# Altium schematic symbol library ZMBo Schematic Library.SchLib: 54 symbols
Pins are listed as number, name and electrical type; pins without a type are passive.

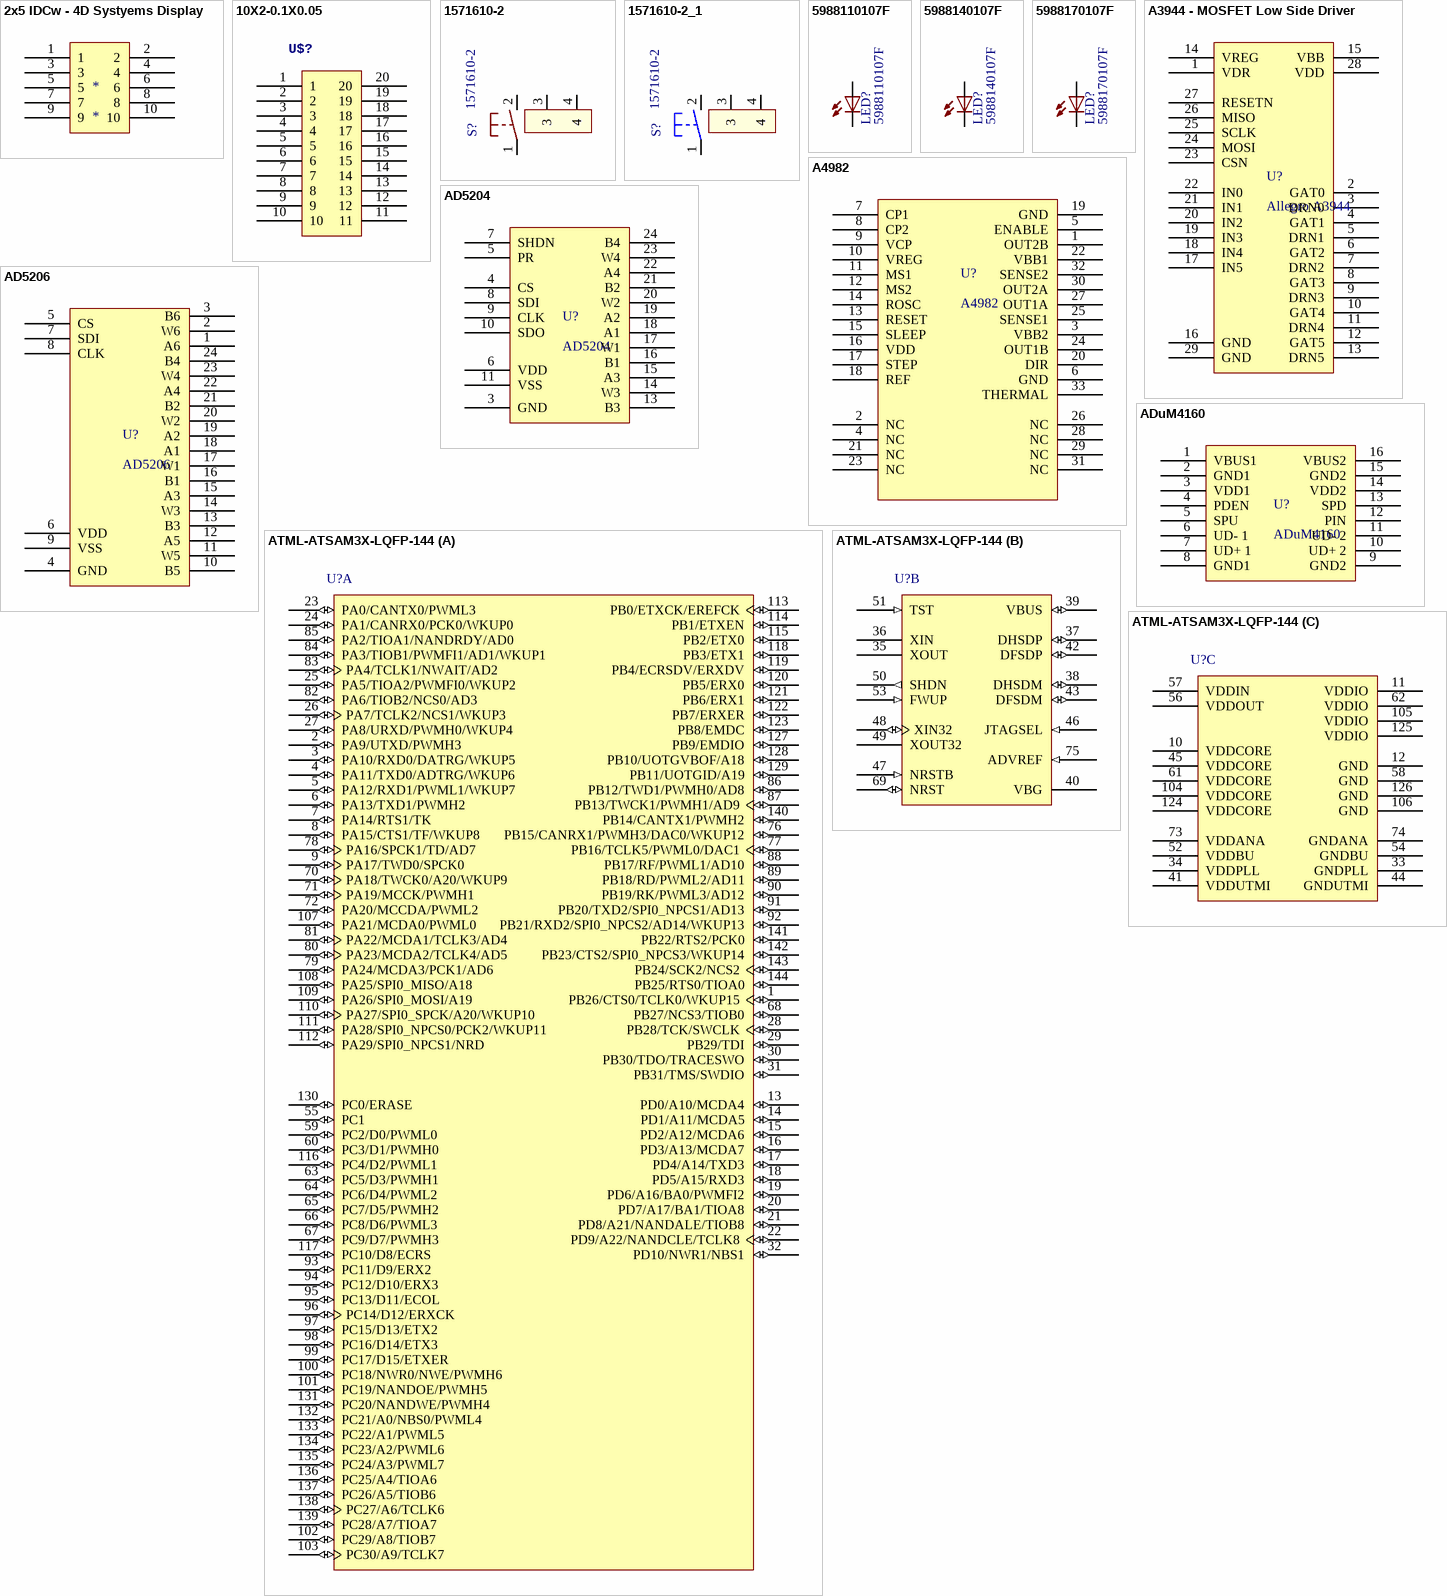
[diagram p0: symbols 2x5 IDCw - 4D Systyems Display to ATML-ATSAM3X-LQFP-144]

## 2x5 IDCw - 4D Systyems Display
designator *
footprint 2x5 IDCw
pins: 1, 2, 3, 4, 5, 6, 7, 8, 9, 10

## 10X2-0.1X0.05
designator U$?
LastRevisionNote: ImportComponents; Published: 23-Apr-2014; Publisher: UltiMachine; LastRevisionDate: 23-Apr-2014
footprint 10X2-0.05X0.1 EXP
pins: 1, 2, 3, 4, 5, 6, 7, 8, 9, 10, 11, 12, 13, 14, 15, 16, 17, 18, 19, 20

## 1571610-2
designator S?
SWTCH Momentary Washable; Manufacturer: Omron; Manufacturer: TE; LastRevisionNote: Import; ComponentLink1URL: http://www.te.com/commerce/DocumentDelivery/DDEController?Action=srchrtrv&DocNm=1571610&DocType=Customer+Drawing&DocLang=English; ComponentLink1Description: Datasheet for B3F-31XX; Published: 23-Apr-2014; Publisher: UltiMachine; LastRevisionDate: 23-Apr-2014; ManufacturerPartNumber: 1571610-2; Supplier 1: Mouser; Supplier Part Number 1: 506-1571610-2
footprint B3F-31XX
pins: 1 P, 2 S, 3 (power), 4 (power)

## 1571610-2_1
designator S?, comment 1571610-2
SWTCH Momentary Washable; Manufacturer: Omron; Manufacturer: TE; LastRevisionNote: Import; ComponentLink1URL: http://www.te.com/commerce/DocumentDelivery/DDEController?Action=srchrtrv&DocNm=1571610&DocType=Customer+Drawing&DocLang=English; ComponentLink1Description: Datasheet for B3F-31XX; Published: 23-Apr-2014; Publisher: UltiMachine; LastRevisionDate: 23-Apr-2014; ManufacturerPartNumber: 1571610-2; Supplier 1: Mouser; Supplier Part Number 1: 506-1571610-2
footprint B3F-31XX
pins: 1 P, 2 S, 3 (power), 4 (power)

## 5988110107F
designator LED?
LED 0805 Red; LastRevisionNote: ImportComponents; Published: 23-Apr-2014; Publisher: UltiMachine; LastRevisionDate: 23-Apr-2014; VALUE: 5988110107F
footprint LED2012120
pins: A, C

## 5988140107F
designator LED?
LED 0805 Yellow; LastRevisionNote: ImportComponents; Published: 23-Apr-2014; Publisher: UltiMachine; LastRevisionDate: 23-Apr-2014; VALUE: 5988140107F
footprint LED2012120
pins: A, C

## 5988170107F
designator LED?
LED 0805 Green; LastRevisionNote: ImportComponents; Published: 23-Apr-2014; Publisher: UltiMachine; LastRevisionDate: 23-Apr-2014; VALUE: 5988170107F
footprint LED2012120
pins: A, C

## A3944 - MOSFET Low Side Driver
designator U?, comment Allegro A3944
Allegro Micro A3944 MOST Driver (low side)
footprint A3944 28 Pin TSSOP (TSOP, 28-Leads, Body 9.70x4.40mm, Pitch 0.65mm, Thermal Pad 5.08.2x3.00.2mm, IPC Medium Density)
pins: 1 VDR, 2 GAT0, 3 DRN0, 4 GAT1, 5 DRN1, 6 GAT2, 7 DRN2, 8 GAT3, 9 DRN3, 10 GAT4, 11 DRN4, 12 GAT5, 13 DRN5, 14 VREG, 15 VBB, 16 GND, 17 IN5, 18 IN4, 19 IN3, 20 IN2, 21 IN1, 22 IN0, 23 CSN, 24 MOSI, 25 SCLK, 26 MISO, 27 RESETN, 28 VDD, 29 GND

## A4982
designator U?
Alllegor A4982 Stepper Driver
footprint QFN50P508X508X100_HS-33N (QFN, 32-Leads, Body 5.08x5.08mm, Pitch 0.50mm, Thermal Pad 3.40x3.40mm, IPC Medium Density)
pins: 1 OUT2B, 2 NC, 3 VBB2, 4 NC, 5 ENABLE, 6 GND, 7 CP1, 8 CP2, 9 VCP, 10 VREG, 11 MS1, 12 MS2, 13 RESET, 14 ROSC, 15 SLEEP, 16 VDD, 17 STEP, 18 REF, 19 GND, 20 DIR, 21 NC, 22 VBB1, 23 NC, 24 OUT1B, 25 SENSE1, 26 NC, 27 OUT1A, 28 NC, 29 NC, 30 OUT2A, 31 NC, 32 SENSE2, 33 THERMAL

## AD5204
designator U?
footprint AD5206 & AD5204 (SOP, 24-Leads, Body 7.80x4.40mm, Pitch 0.65mm, IPC Medium Density)
pins: 1 NC hidden, 2 NC hidden, 3 GND, 4 CS, 5 PR, 6 VDD, 7 SHDN, 8 SDI, 9 CLK, 10 SDO, 11 VSS, 12 NC hidden, 13 B3, 14 W3, 15 A3, 16 B1, 17 W1, 18 A1, 19 A2, 20 W2, 21 B2, 22 A4, 23 W4, 24 B4

## AD5206
designator U?
footprint AD5206 & AD5204 (SOP, 24-Leads, Body 7.80x4.40mm, Pitch 0.65mm, IPC Medium Density)
pins: 1 A6, 2 W6, 3 B6, 4 GND, 5 CS, 6 VDD, 7 SDI, 8 CLK, 9 VSS, 10 B5, 11 W5, 12 A5, 13 B3, 14 W3, 15 A3, 16 B1, 17 W1, 18 A1, 19 A2, 20 W2, 21 B2, 22 A4, 23 W4, 24 B4

## ADuM4160
designator U?
USB Opto Isolator
footprint ADuM4160 (SOIC, 16-Leads, Body 10.30x7.50mm, Pitch 1.27mm, IPC Medium Density)
pins: 1 VBUS1, 2 GND1, 3 VDD1, 4 PDEN, 5 SPU, 6 UD- 1, 7 UD+ 1, 8 GND1, 9 GND2, 10 UD+ 2, 11 UD- 2, 12 PIN, 13 SPD, 14 VDD2, 15 GND2, 16 VBUS2

## ATML-ATSAM3X-LQFP-144
designator U?
footprint LQFP144_N (Thin QFP, 144-Leads, Body 20x20mm, Pitch 0.5mm, IPC Medium Density)
part A pins: 1 PB26/CTS0/TCLK0/WKUP15 (io), 2 PA9/UTXD/PWMH3 (io), 3 PA10/RXD0/DATRG/WKUP5 (io), 4 PA11/TXD0/ADTRG/WKUP6 (io), 5 PA12/RXD1/PWML1/WKUP7 (io), 6 PA13/TXD1/PWMH2 (io), 7 PA14/RTS1/TK (io), 8 PA15/CTS1/TF/WKUP8 (io), 9 PA17/TWD0/SPCK0 (io), 13 PD0/A10/MCDA4 (io), 14 PD1/A11/MCDA5 (io), 15 PD2/A12/MCDA6 (io), 16 PD3/A13/MCDA7 (io), 17 PD4/A14/TXD3 (io), 18 PD5/A15/RXD3 (io), 19 PD6/A16/BA0/PWMFI2 (io), 20 PD7/A17/BA1/TIOA8 (io), 21 PD8/A21/NANDALE/TIOB8 (io), 22 PD9/A22/NANDCLE/TCLK8 (io), 23 PA0/CANTX0/PWML3 (io), 24 PA1/CANRX0/PCK0/WKUP0 (io), 25 PA5/TIOA2/PWMFI0/WKUP2 (io), 26 PA7/TCLK2/NCS1/WKUP3 (io), 27 PA8/URXD/PWMH0/WKUP4 (io), 28 PB28/TCK/SWCLK (io), 29 PB29/TDI (io), 30 PB30/TDO/TRACESWO (io), 31 PB31/TMS/SWDIO (io), 32 PD10/NWR1/NBS1 (io), 55 PC1 (io), 59 PC2/D0/PWML0 (io), 60 PC3/D1/PWMH0 (io), 63 PC5/D3/PWMH1 (io), 64 PC6/D4/PWML2 (io), 65 PC7/D5/PWMH2 (io), 66 PC8/D6/PWML3 (io), 67 PC9/D7/PWMH3 (io), 68 PB27/NCS3/TIOB0 (io), 70 PA18/TWCK0/A20/WKUP9 (io), 71 PA19/MCCK/PWMH1 (io), 72 PA20/MCCDA/PWML2 (io), 76 PB15/CANRX1/PWMH3/DAC0/WKUP12 (io), 77 PB16/TCLK5/PWML0/DAC1 (io), 78 PA16/SPCK1/TD/AD7 (io), 79 PA24/MCDA3/PCK1/AD6 (io), 80 PA23/MCDA2/TCLK4/AD5 (io), 81 PA22/MCDA1/TCLK3/AD4 (io), 82 PA6/TIOB2/NCS0/AD3 (io), 83 PA4/TCLK1/NWAIT/AD2 (io), 84 PA3/TIOB1/PWMFI1/AD1/WKUP1 (io), 85 PA2/TIOA1/NANDRDY/AD0 (io), 86 PB12/TWD1/PWMH0/AD8 (io), 87 PB13/TWCK1/PWMH1/AD9 (io), 88 PB17/RF/PWML1/AD10 (io), 89 PB18/RD/PWML2/AD11 (io), 90 PB19/RK/PWML3/AD12 (io), 91 PB20/TXD2/SPI0_NPCS1/AD13 (io), 92 PB21/RXD2/SPI0_NPCS2/AD14/WKUP13 (io), 93 PC11/D9/ERX2 (io), 94 PC12/D10/ERX3 (io), 95 PC13/D11/ECOL (io), 96 PC14/D12/ERXCK (io), 97 PC15/D13/ETX2 (io), 98 PC16/D14/ETX3 (io), 99 PC17/D15/ETXER (io), 100 PC18/NWR0/NWE/PWMH6 (io), 101 PC19/NANDOE/PWMH5 (io), 102 PC29/A8/TIOB7 (io), 103 PC30/A9/TCLK7 (io), 107 PA21/MCDA0/PWML0 (io), 108 PA25/SPI0_MISO/A18 (io), 109 PA26/SPI0_MOSI/A19 (io), 110 PA27/SPI0_SPCK/A20/WKUP10 (io), 111 PA28/SPI0_NPCS0/PCK2/WKUP11 (io), 112 PA29/SPI0_NPCS1/NRD (io), 113 PB0/ETXCK/EREFCK (io), 114 PB1/ETXEN (io), 115 PB2/ETX0 (io), 116 PC4/D2/PWML1 (io), 117 PC10/D8/ECRS (io), 118 PB3/ETX1 (io), 119 PB4/ECRSDV/ERXDV (io), 120 PB5/ERX0 (io), 121 PB6/ERX1 (io), 122 PB7/ERXER (io), 123 PB8/EMDC (io), 127 PB9/EMDIO (io), 128 PB10/UOTGVBOF/A18 (io), 129 PB11/UOTGID/A19 (io), 130 PC0/ERASE (io), 131 PC20/NANDWE/PWMH4 (io), 132 PC21/A0/NBS0/PWML4 (io), 133 PC22/A1/PWML5 (io), 134 PC23/A2/PWML6 (io), 135 PC24/A3/PWML7 (io), 136 PC25/A4/TIOA6 (io), 137 PC26/A5/TIOB6 (io), 138 PC27/A6/TCLK6 (io), 139 PC28/A7/TIOA7 (io), 140 PB14/CANTX1/PWMH2 (io), 141 PB22/RTS2/PCK0 (io), 142 PB23/CTS2/SPI0_NPCS3/WKUP14 (io), 143 PB24/SCK2/NCS2 (io), 144 PB25/RTS0/TIOA0 (io)
part B pins: 35 XOUT "Main Oscillator Output", 36 XIN "Main Oscillator Input", 37 DHSDP (io) "USB High Speed Data +", 38 DHSDM (io) "USB High Speed Data -", 39 VBUS (io) "USB Bus Power Measurement Mini Host/Device", 40 VBG "Bias Voltage Reference", 42 DFSDP (io) "USB Full Speed Data +", 43 DFSDM (io) "USB Full Speed Data -", 46 JTAGSEL (in) "JTAG Selection", 47 NRSTB (in) "Asynchronous Microcontroller Reset", 48 XIN32 (io) "Slow Clock Oscillator Input", 49 XOUT32 "Slow Clock Oscillator Output", 50 SHDN (out) "Shut-Down Control", 51 TST (in) "Test Mode Select", 53 FWUP (in) "Force Wake-up Input", 69 NRST (io) "Microcontroller Reset", 75 ADVREF (in) "ADC and DAC Reference"
part C pins: 10 VDDCORE (power) "Core Chip Power Supply", 11 VDDIO (power) "Peripherals I/O Lines Power Supply", 12 GND (power) "Ground", 33 GNDPLL (power) "PLL A, UPLL and Oscillator Ground", 34 VDDPLL (power) "PLL A, UPLL and Oscillator Power Supply", 41 VDDUTMI (power) "USB UTMI+ Interface Power Supply", 44 GNDUTMI (power) "USB UTMI+ Interface Ground", 45 VDDCORE (power) "Core Chip Power Supply", 52 VDDBU (power) "Backup I/O Lines Power Supply", 54 GNDBU (power) "Backup Ground", 56 VDDOUT (power) "Voltage Regulator Output", 57 VDDIN (power) "Voltage Regulator, ADC and DAC Power", 58 GND (power) "Ground", 61 VDDCORE (power) "Core Chip Power Supply", 62 VDDIO (power) "Peripherals I/O Lines Power Supply", 73 VDDANA (power) "ADC and DAC Analog Power Supply", 74 GNDANA (power) "ADC and DAC Analog Ground", 104 VDDCORE (power) "Core Chip Power Supply", 105 VDDIO (power) "Peripherals I/O Lines Power Supply", 106 GND (power) "Ground", 124 VDDCORE (power) "Core Chip Power Supply", 125 VDDIO (power) "Peripherals I/O Lines Power Supply", 126 GND (power) "Ground"

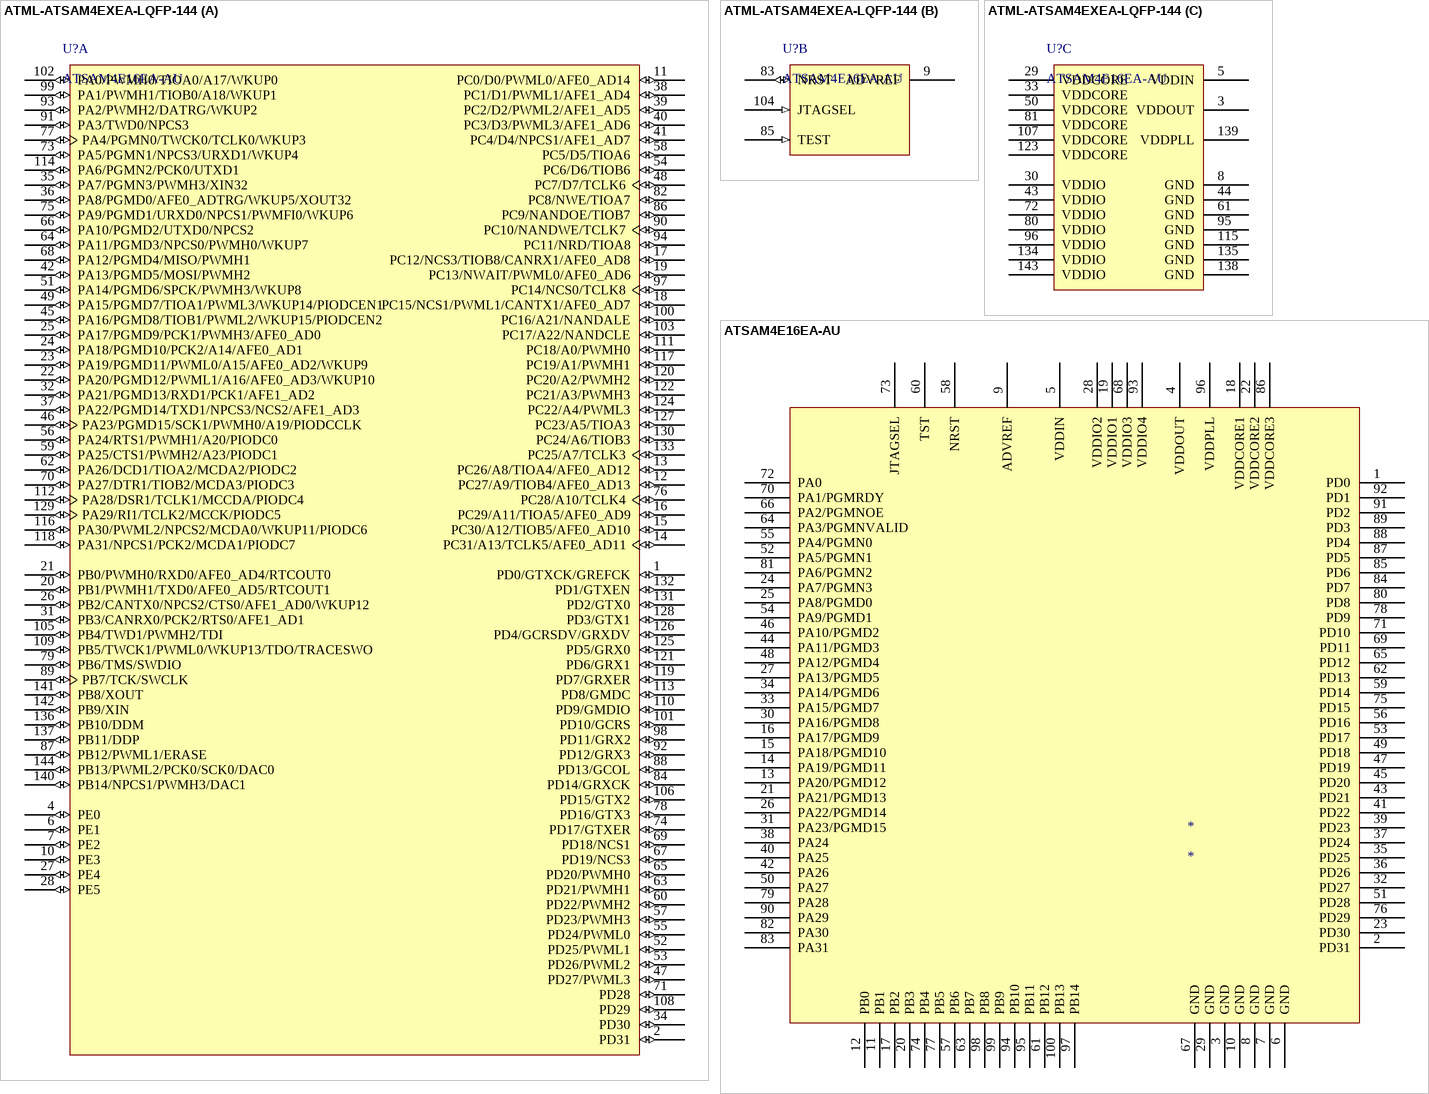
[diagram p1: symbols ATML-ATSAM4EXEA-LQFP-144 to ATSAM4E16EA-AU]

## ATML-ATSAM4EXEA-LQFP-144
designator U?, comment ATSAM4E16EA-AU
footprint LQFP144_N (Thin QFP, 144-Leads, Body 20x20mm, Pitch 0.5mm, IPC Medium Density)
part A pins: 1 PD0/GTXCK/GREFCK (io) "Parallel IO Controller D", 2 PD31 (io) "Parallel IO Controller D", 4 PE0 (io) "Parallel IO Controller E", 6 PE1 (io) "Parallel IO Controller E", 7 PE2 (io) "Parallel IO Controller E", 10 PE3 (io) "Parallel IO Controller E", 11 PC0/D0/PWML0/AFE0_AD14 (io) "Parallel IO Controller C", 12 PC27/A9/TIOB4/AFE0_AD13 (io) "Parallel IO Controller C", 13 PC26/A8/TIOA4/AFE0_AD12 (io) "Parallel IO Controller C", 14 PC31/A13/TCLK5/AFE0_AD11 (io) "Parallel IO Controller C", 15 PC30/A12/TIOB5/AFE0_AD10 (io) "Parallel IO Controller C", 16 PC29/A11/TIOA5/AFE0_AD9 (io) "Parallel IO Controller C", 17 PC12/NCS3/TIOB8/CANRX1/AFE0_AD8 (io) "Parallel IO Controller C", 18 PC15/NCS1/PWML1/CANTX1/AFE0_AD7 (io) "Parallel IO Controller C", 19 PC13/NWAIT/PWML0/AFE0_AD6 (io) "Parallel IO Controller C", 20 PB1/PWMH1/TXD0/AFE0_AD5/RTCOUT1 (io) "Parallel IO Controller B", 21 PB0/PWMH0/RXD0/AFE0_AD4/RTCOUT0 (io) "Parallel IO Controller B", 22 PA20/PGMD12/PWML1/A16/AFE0_AD3/WKUP10 (io) "Parallel IO Controller A", 23 PA19/PGMD11/PWML0/A15/AFE0_AD2/WKUP9 (io) "Parallel IO Controller A", 24 PA18/PGMD10/PCK2/A14/AFE0_AD1 (io) "Parallel IO Controller A", 25 PA17/PGMD9/PCK1/PWMH3/AFE0_AD0 (io) "Parallel IO Controller A", 26 PB2/CANTX0/NPCS2/CTS0/AFE1_AD0/WKUP12 (io) "Parallel IO Controller B", 27 PE4 (io) "Parallel IO Controller E", 28 PE5 (io) "Parallel IO Controller E", 31 PB3/CANRX0/PCK2/RTS0/AFE1_AD1 (io) "Parallel IO Controller B", 32 PA21/PGMD13/RXD1/PCK1/AFE1_AD2 (io) "Parallel IO Controller A", 34 PD30 (io) "Parallel IO Controller D", 35 PA7/PGMN3/PWMH3/XIN32 (io) "Parallel IO Controller A", 36 PA8/PGMD0/AFE0_ADTRG/WKUP5/XOUT32 (io) "Parallel IO Controller A", 37 PA22/PGMD14/TXD1/NPCS3/NCS2/AFE1_AD3 (io) "Parallel IO Controller A", 38 PC1/D1/PWML1/AFE1_AD4 (io) "Parallel IO Controller C", 39 PC2/D2/PWML2/AFE1_AD5 (io) "Parallel IO Controller C", 40 PC3/D3/PWML3/AFE1_AD6 (io) "Parallel IO Controller C", 41 PC4/D4/NPCS1/AFE1_AD7 (io) "Parallel IO Controller C", 42 PA13/PGMD5/MOSI/PWMH2 (io) "Parallel IO Controller A", 45 PA16/PGMD8/TIOB1/PWML2/WKUP15/PIODCEN2 (io) "Parallel IO Controller A", 46 PA23/PGMD15/SCK1/PWMH0/A19/PIODCCLK (io) "Parallel IO Controller A", 47 PD27/PWML3 (io) "Parallel IO Controller D", 48 PC7/D7/TCLK6 (io) "Parallel IO Controller C", 49 PA15/PGMD7/TIOA1/PWML3/WKUP14/PIODCEN1 (io) "Parallel IO Controller A", 51 PA14/PGMD6/SPCK/PWMH3/WKUP8 (io) "Parallel IO Controller A", 52 PD25/PWML1 (io) "Parallel IO Controller D", 53 PD26/PWML2 (io) "Parallel IO Controller D", 54 PC6/D6/TIOB6 (io) "Parallel IO Controller C", 55 PD24/PWML0 (io) "Parallel IO Controller D", 56 PA24/RTS1/PWMH1/A20/PIODC0 (io) "Parallel IO Controller A", 57 PD23/PWMH3 (io) "Parallel IO Controller D", 58 PC5/D5/TIOA6 (io) "Parallel IO Controller C", 59 PA25/CTS1/PWMH2/A23/PIODC1 (io) "Parallel IO Controller A", 60 PD22/PWMH2 (io) "Parallel IO Controller D", 62 PA26/DCD1/TIOA2/MCDA2/PIODC2 (io) "Parallel IO Controller A", 63 PD21/PWMH1 (io) "Parallel IO Controller D", 64 PA11/PGMD3/NPCS0/PWMH0/WKUP7 (io) "Parallel IO Controller A", 65 PD20/PWMH0 (io) "Parallel IO Controller D", 66 PA10/PGMD2/UTXD0/NPCS2 (io) "Parallel IO Controller A", 67 PD19/NCS3 (io) "Parallel IO Controller D", 68 PA12/PGMD4/MISO/PWMH1 (io) "Parallel IO Controller A", 69 PD18/NCS1 (io) "Parallel IO Controller D", 70 PA27/DTR1/TIOB2/MCDA3/PIODC3 (io) "Parallel IO Controller A", 71 PD28 (io) "Parallel IO Controller D", 73 PA5/PGMN1/NPCS3/URXD1/WKUP4 (io) "Parallel IO Controller A", 74 PD17/GTXER (io) "Parallel IO Controller D", 75 PA9/PGMD1/URXD0/NPCS1/PWMFI0/WKUP6 (io) "Parallel IO Controller A", 76 PC28/A10/TCLK4 (io) "Parallel IO Controller C", 77 PA4/PGMN0/TWCK0/TCLK0/WKUP3 (io) "Parallel IO Controller A", 78 PD16/GTX3 (io) "Parallel IO Controller D", 79 PB6/TMS/SWDIO (io) "Parallel IO Controller B", 82 PC8/NWE/TIOA7 (io) "Parallel IO Controller C", 84 PD14/GRXCK (io) "Parallel IO Controller D", 86 PC9/NANDOE/TIOB7 (io) "Parallel IO Controller C", 87 PB12/PWML1/ERASE (io) "Parallel IO Controller B", 88 PD13/GCOL (io) "Parallel IO Controller D", 89 PB7/TCK/SWCLK (io) "Parallel IO Controller B", 90 PC10/NANDWE/TCLK7 (io) "Parallel IO Controller C", 91 PA3/TWD0/NPCS3 (io) "Parallel IO Controller A", 92 PD12/GRX3 (io) "Parallel IO Controller D", 93 PA2/PWMH2/DATRG/WKUP2 (io) "Parallel IO Controller A", 94 PC11/NRD/TIOA8 (io) "Parallel IO Controller C", 97 PC14/NCS0/TCLK8 (io) "Parallel IO Controller C", 98 PD11/GRX2 (io) "Parallel IO Controller D", 99 PA1/PWMH1/TIOB0/A18/WKUP1 (io) "Parallel IO Controller A", 100 PC16/A21/NANDALE (io) "Parallel IO Controller C", 101 PD10/GCRS (io) "Parallel IO Controller D", 102 PA0/PWMH0/TIOA0/A17/WKUP0 (io) "Parallel IO Controller A", 103 PC17/A22/NANDCLE (io) "Parallel IO Controller C", 105 PB4/TWD1/PWMH2/TDI (io) "Parallel IO Controller B", 106 PD15/GTX2 (io) "Parallel IO Controller D", 108 PD29 (io) "Parallel IO Controller D", 109 PB5/TWCK1/PWML0/WKUP13/TDO/TRACESWO (io) "Parallel IO Controller B", 110 PD9/GMDIO (io) "Parallel IO Controller D", 111 PC18/A0/PWMH0 (io) "Parallel IO Controller C", 112 PA28/DSR1/TCLK1/MCCDA/PIODC4 (io) "Parallel IO Controller A", 113 PD8/GMDC (io) "Parallel IO Controller D", 114 PA6/PGMN2/PCK0/UTXD1 (io) "Parallel IO Controller A", 116 PA30/PWML2/NPCS2/MCDA0/WKUP11/PIODC6 (io) "Parallel IO Controller A", 117 PC19/A1/PWMH1 (io) "Parallel IO Controller C", 118 PA31/NPCS1/PCK2/MCDA1/PIODC7 (io) "Parallel IO Controller A", 119 PD7/GRXER (io) "Parallel IO Controller D", 120 PC20/A2/PWMH2 (io) "Parallel IO Controller C", 121 PD6/GRX1 (io) "Parallel IO Controller D", 122 PC21/A3/PWMH3 (io) "Parallel IO Controller C", 124 PC22/A4/PWML3 (io) "Parallel IO Controller C", 125 PD5/GRX0 (io) "Parallel IO Controller D", 126 PD4/GCRSDV/GRXDV (io) "Parallel IO Controller D", 127 PC23/A5/TIOA3 (io) "Parallel IO Controller C", 128 PD3/GTX1 (io) "Parallel IO Controller D", 129 PA29/RI1/TCLK2/MCCK/PIODC5 (io) "Parallel IO Controller A", 130 PC24/A6/TIOB3 (io) "Parallel IO Controller C", 131 PD2/GTX0 (io) "Parallel IO Controller D", 132 PD1/GTXEN (io) "Parallel IO Controller D", 133 PC25/A7/TCLK3 (io) "Parallel IO Controller C", 136 PB10/DDM (io) "Parallel IO Controller B", 137 PB11/DDP (io) "Parallel IO Controller B", 140 PB14/NPCS1/PWMH3/DAC1 (io) "Parallel IO Controller B", 141 PB8/XOUT (io) "Parallel IO Controller B", 142 PB9/XIN (io) "Parallel IO Controller B", 144 PB13/PWML2/PCK0/SCK0/DAC0 (io) "Parallel IO Controller B"
part B pins: 9 ADVREF "ADC, DAC and Analog Comparator  Reference", 83 NRST (io) "Synchronous Microcontroller Reset", 85 TEST (in) "Test Select", 104 JTAGSEL (in) "JTAG Selection"
part C pins: 3 VDDOUT (power) "Voltage Regulator Output", 5 VDDIN (power) "Voltage Regulator Input, DAC and Analog  Comparator Power Supply", 8 GND (power) "Ground", 29 VDDCORE (power) "Power the core, the embedded memories and the peripherals", 30 VDDIO (power) "Peripherals I/O Lines Power Supply", 33 VDDCORE (power) "Power the core, the embedded memories and the peripherals", 43 VDDIO (power) "Peripherals I/O Lines Power Supply", 44 GND (power) "Ground", 50 VDDCORE (power) "Power the core, the embedded memories and the peripherals", 61 GND (power) "Ground", 72 VDDIO (power) "Peripherals I/O Lines Power Supply", 80 VDDIO (power) "Peripherals I/O Lines Power Supply", 81 VDDCORE (power) "Power the core, the embedded memories and the peripherals", 95 GND (power) "Ground", 96 VDDIO (power) "Peripherals I/O Lines Power Supply", 107 VDDCORE (power) "Power the core, the embedded memories and the peripherals", 115 GND (power) "Ground", 123 VDDCORE (power) "Power the core, the embedded memories and the peripherals", 134 VDDIO (power) "Peripherals I/O Lines Power Supply", 135 GND (power) "Ground", 138 GND (power) "Ground", 139 VDDPLL (power) "Oscillator and PLL Power Supply", 143 VDDIO (power) "Peripherals I/O Lines Power Supply"

## ATSAM4E16EA-AU
designator *
pins: 1 PD0, 2 PD31, 3 GND, 4 VDDOUT, 5 VDDIN, 6 GND, 7 GND, 8 GND, 9 ADVREF, 10 GND, 11 PB1, 12 PB0, 13 PA20/PGMD12, 14 PA19/PGMD11, 15 PA18/PGMD10, 16 PA17/PGMD9, 17 PB2, 18 VDDCORE1, 19 VDDIO1, 20 PB3, 21 PA21/PGMD13, 22 VDDCORE2, 23 PD30, 24 PA7/PGMN3, 25 PA8/PGMD0, 26 PA22/PGMD14, 27 PA13/PGMD5, 28 VDDIO2, 29 GND, 30 PA16/PGMD8, 31 PA23/PGMD15, 32 PD27, 33 PA15/PGMD7, 34 PA14/PGMD6, 35 PD25, 36 PD26, 37 PD24, 38 PA24, 39 PD23, 40 PA25, 41 PD22, 42 PA26, 43 PD21, 44 PA11/PGMD3, 45 PD20, 46 PA10/PGMD2, 47 PD19, 48 PA12/PGMD4, 49 PD18, 50 PA27, 51 PD28, 52 PA5/PGMN1, 53 PD17, 54 PA9/PGMD1, 55 PA4/PGMN0, 56 PD16, 57 PB6, 58 NRST, 59 PD14, 60 TST, 61 PB12, 62 PD13, 63 PB7, 64 PA3/PGMNVALID, 65 PD12, 66 PA2/PGMNOE, 67 GND, 68 VDDIO3, 69 PD11, 70 PA1/PGMRDY, 71 PD10, 72 PA0, 73 JTAGSEL, 74 PB4, 75 PD15, 76 PD29, 77 PB5, 78 PD9, 79 PA28, 80 PD8, 81 PA6/PGMN2, 82 PA30, 83 PA31, 84 PD7, 85 PD6, 86 VDDCORE3, 87 PD5, 88 PD4, 89 PD3, 90 PA29, 91 PD2, 92 PD1, 93 VDDIO4, 94 PB10, 95 PB11, 96 VDDPLL, 97 PB14, 98 PB8, 99 PB9, 100 PB13

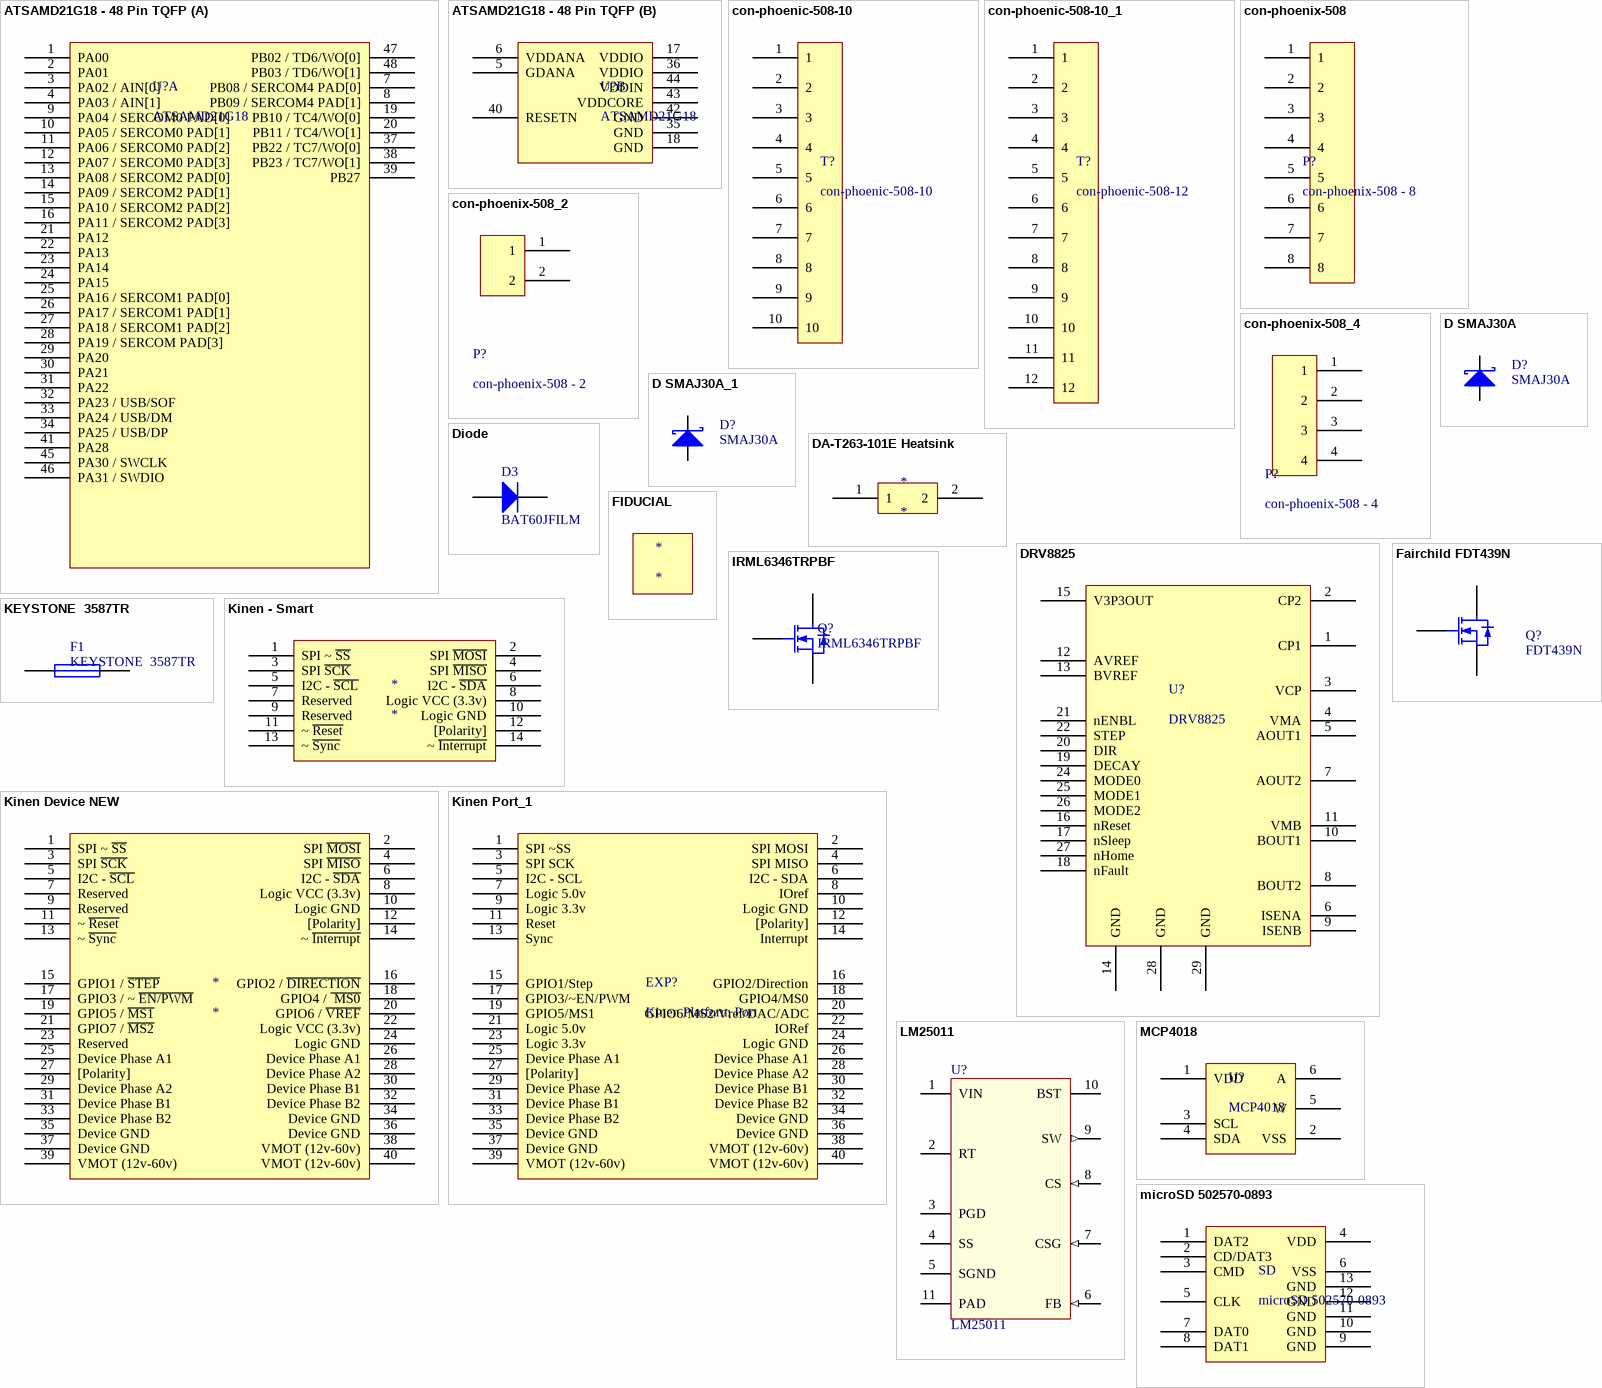
[diagram p2: symbols ATSAMD21G18 - 48 Pin TQFP to microSD 502570-0893]

## ATSAMD21G18 - 48 Pin TQFP
designator U?, comment ATSAMD21G18
ARM Cortex M0+
footprint TSQFP50P900X900X120-48N (TSQFP, 48-Leads, Body 7.00x7.00mm, Pitch 0.50mm, IPC Medium Density)
part A pins: 1 PA00, 2 PA01, 3 PA02 / AIN[0], 4 PA03 / AIN[1], 7 PB08 / SERCOM4 PAD[0], 8 PB09 / SERCOM4 PAD[1], 9 PA04 / SERCOM0 PAD[0], 10 PA05 / SERCOM0 PAD[1], 11 PA06 / SERCOM0 PAD[2], 12 PA07 / SERCOM0 PAD[3], 13 PA08 / SERCOM2 PAD[0], 14 PA09 / SERCOM2 PAD[1], 15 PA10 / SERCOM2 PAD[2], 16 PA11 / SERCOM2 PAD[3], 19 PB10 / TC4/WO[0], 20 PB11 / TC4/WO[1], 21 PA12, 22 PA13, 23 PA14, 24 PA15, 25 PA16 / SERCOM1 PAD[0], 26 PA17 / SERCOM1 PAD[1], 27 PA18 / SERCOM1 PAD[2], 28 PA19 / SERCOM PAD[3], 29 PA20, 30 PA21, 31 PA22, 32 PA23 / USB/SOF, 33 PA24 / USB/DM, 34 PA25 / USB/DP, 37 PB22 / TC7/WO[0], 38 PB23 / TC7/WO[1], 39 PB27, 41 PA28, 45 PA30 / SWCLK, 46 PA31 / SWDIO, 47 PB02 / TD6/WO[0], 48 PB03 / TD6/WO[1]
part B pins: 5 GDANA, 6 VDDANA, 17 VDDIO, 18 GND, 35 GND, 36 VDDIO, 40 RESETN, 42 GND, 43 VDDCORE, 44 VDDIN

## con-phoenic-508-10
designator T?
footprint con-phoenix-508 - 10 (con-phoenix-508)
pins: 1, 2, 3, 4, 5, 6, 7, 8, 9, 10

## con-phoenic-508-10_1
designator T?, comment con-phoenic-508-12
footprint con-phoenix-508 - 12 (con-phoenix-508)
pins: 1, 2, 3, 4, 5, 6, 7, 8, 9, 10, 11, 12

## con-phoenix-508
designator P?, comment con-phoenix-508 - 8
footprint con-phoenix-508 - 8 (con-phoenix-508)
pins: 1, 2, 3, 4, 5, 6, 7, 8

## con-phoenix-508_2
designator P?, comment con-phoenix-508 - 2
footprint MSTBV4
footprint MSTBV2 - duplicate
pins: 1, 2

## con-phoenix-508_4
designator P?, comment con-phoenix-508 - 4
footprint MSTBV4
pins: 1, 2, 3, 4

## D SMAJ30A
designator D?, comment SMAJ30A
Published: 8-Jun-2000; LatestRevisionDate: 17-Jul-2002; LatestRevisionNote: Re-released for DXP Platform.; PackageReference: SMB; Publisher: Altium Limited; PackageDescription: DO-214-AA/SMB; 2 C-Bend Leads; Body 5.3 x 3.6 mm, inc. leads (LxW); Code_JEDEC: DO-214-AA
footprint SMB (DO-214-AA/SMB; 2 C-Bend Leads; Body 5.3 x 3.6 mm, inc. leads (LxW))
simulation model SKYDIODE (Diode)
signal-integrity model D Schottky
footprint SMAJ30A (Molded Diode, 2-Leads, Body 4.25x2.67mm, IPC Medium Density)
pins: 1 A, 2 K

## D SMAJ30A_1
designator D?, comment SMAJ30A
Published: 8-Jun-2000; LatestRevisionDate: 17-Jul-2002; LatestRevisionNote: Re-released for DXP Platform.; PackageReference: SMB; Publisher: Altium Limited; PackageDescription: DO-214-AA/SMB; 2 C-Bend Leads; Body 5.3 x 3.6 mm, inc. leads (LxW); Code_JEDEC: DO-214-AA
footprint SMB (DO-214-AA/SMB; 2 C-Bend Leads; Body 5.3 x 3.6 mm, inc. leads (LxW))
simulation model SKYDIODE (Diode)
signal-integrity model D Schottky
footprint SMAJ30A (Molded Diode, 2-Leads, Body 4.25x2.67mm, IPC Medium Density)
pins: 1 A, 2 K

## DA-T263-101E Heatsink
designator *
footprint DA-T263-101E
pins: 1, 2

## Diode
designator D3, comment BAT60JFILM
Default Diode; Code - JEDEC: DO-214-AB; Published: 8-Jun-2000; Revision: July-2002: Re-released for DXP Platform.; Publisher: Altium Limited
footprint DSO-C2/X3.3 (DO-214-AB/SMC; 2 C-Bend Leads; Body 7.9 x 5.9 mm, inc. leads (LxW))
simulation model DIODE (Diode)
signal-integrity model Diode
footprint SOD-323
pins: 1 A, 2 K

## DRV8825
designator U?
DRV8825 Ti Stepper Driver
footprint DRV8825 (TSOP, 28-Leads, Body 9.70x4.40mm, Pitch 0.65mm, Thermal Pad 5.22.2x3.10.2mm, IPC Medium Density)
pins: 1 CP1, 2 CP2, 3 VCP, 4 VMA, 5 AOUT1, 6 ISENA, 7 AOUT2, 8 BOUT2, 9 ISENB, 10 BOUT1, 11 VMB, 12 AVREF, 13 BVREF, 14 GND, 15 V3P3OUT, 16 nReset, 17 nSleep, 18 nFault, 19 DECAY, 20 DIR, 21 nENBL, 22 STEP, 23 NC hidden, 24 MODE0, 25 MODE1, 26 MODE2, 27 nHome, 28 GND, 29 GND

## Fairchild FDT439N
designator Q?, comment FDT439N
N-Channel MOSFET; Published: 8-Jun-2000; LatestRevisionDate: 17-Jul-2002; LatestRevisionNote: Re-released for DXP Platform.; PackageVersion: 1995/1996; PackageReference: E3; Publisher: Altium Limited; PackageDescription: TO, Flat Index; 3 In-Line, Axial Leads; Body Dia. 4.6mm; Lead Dia. 0.5 mm (max)
simulation model NMOS (MOSFET-N)
footprint Fairchild FDT439N (SOT223, 4-Leads, Body 6.60x7.08mm (avg), Pitch 2.30mm, IPC Medium Density)
pins: 1 G, 2 D, 3 S, 4 D hidden to 2

## FIDUCIAL
designator *
footprint FIDUCIAL-1X2

## IRML6346TRPBF
designator Q?
N-Channel MOSFET; Published: 8-Jun-2000; LatestRevisionDate: 17-Jul-2002; LatestRevisionNote: Re-released for DXP Platform.; PackageVersion: 1995/1996; PackageReference: E3; Publisher: Altium Limited; PackageDescription: TO, Flat Index; 3 In-Line, Axial Leads; Body Dia. 4.6mm; Lead Dia. 0.5 mm (max)
simulation model NMOS (MOSFET-N)
footprint IRLML6346 (SOT23, 3-Leads, Body 2.92x2.37mm, Pitch 0.95mm, IPC Medium Density)
pins: 1 G, 2 S, 3 D

## KEYSTONE  3587TR
designator F1
Published: 8-Jun-2000; LatestRevisionDate: 17-Jul-2002; LatestRevisionNote: Re-released for DXP Platform.; PackageReference: PIN-W2/E2.8; Publisher: Altium Limited; PackageDescription: Thru-Hole; 2 Leads
simulation model FUSE (Spice Subcircuit)
footprint TinyFuseATO_Carrier (TinyFuse ATO Automotive fuse holder 153008)
footprint KEYSTONE  3587TR (KEYSTONE  3587TR  Automotive FUse Holder)
pins: 1, 2

## Kinen - Smart
designator *
footprint Kinen Port - Smart - MOBO
pins: 1 SPI ~ ~{SS}, 2 SPI ~{MOSI}, 3 SPI ~{SCK}, 4 SPI ~{MISO}, 5 I2C - ~{SCL}, 6 I2C - ~{SDA}, 7 Reserved, 8 Logic VCC (3.3v), 9 Reserved, 10 Logic GND, 11 ~ ~{Reset}, 12 [Polarity], 13 ~ ~{Sync}, 14 ~ ~{Interrupt}

## Kinen Device NEW
designator *
footprint Kinen Port - Device (Synthetos Kinen Expansion Port Socket)
pins: 1 SPI ~ ~{SS}, 2 SPI ~{MOSI}, 3 SPI ~{SCK}, 4 SPI ~{MISO}, 5 I2C - ~{SCL}, 6 I2C - ~{SDA}, 7 Reserved, 8 Logic VCC (3.3v), 9 Reserved, 10 Logic GND, 11 ~ ~{Reset}, 12 [Polarity], 13 ~ ~{Sync}, 14 ~ ~{Interrupt}, 15 GPIO1 / ~{STEP}, 16 GPIO2 / ~{DIRECTION}, 17 GPIO3 / ~ ~{EN/PWM}, 18 GPIO4 / ~{ MS0}, 19 GPIO5 / ~{MS1}, 20 GPIO6 / ~{VREF}, 21 GPIO7 / ~{MS2}, 22 Logic VCC (3.3v), 23 Reserved, 24 Logic GND, 25 Device Phase A1, 26 Device Phase A1, 27 [Polarity], 28 Device Phase A2, 29 Device Phase A2, 30 Device Phase B1, 31 Device Phase B1, 32 Device Phase B2, 33 Device Phase B2, 34 Device GND, 35 Device GND, 36 Device GND, 37 Device GND, 38 VMOT (12v-60v), 39 VMOT (12v-60v), 40 VMOT (12v-60v)

## Kinen Port_1
designator EXP?, comment Kinen Platform Port
footprint Kinen Port (Synthetos Kinen Expansion Port Socket)
pins: 1 SPI ~SS, 2 SPI MOSI, 3 SPI SCK, 4 SPI MISO, 5 I2C - SCL, 6 I2C - SDA, 7 Logic 5.0v, 8 IOref, 9 Logic 3.3v, 10 Logic GND, 11 Reset, 12 [Polarity], 13 Sync, 14 Interrupt, 15 GPIO1/Step, 16 GPIO2/Direction, 17 GPIO3/~EN/PWM, 18 GPIO4/MS0, 19 GPIO5/MS1, 20 GPIO6/MS2/Vref/DAC/ADC, 21 Logic 5.0v, 22 IORef, 23 Logic 3.3v, 24 Logic GND, 25 Device Phase A1, 26 Device Phase A1, 27 [Polarity], 28 Device Phase A2, 29 Device Phase A2, 30 Device Phase B1, 31 Device Phase B1, 32 Device Phase B2, 33 Device Phase B2, 34 Device GND, 35 Device GND, 36 Device GND, 37 Device GND, 38 VMOT (12v-60v), 39 VMOT (12v-60v), 40 VMOT (12v-60v)

## LM25011
designator U?
REG BUCK; Value: LM25011
footprint VSSOP10 (TSSOP, 10-Leads, Body 3.15x3.00mm, Pitch 0.50mm, Thermal Pad 2.05.2x1.50.2mm, IPC High Density)
pins: 1 VIN (power), 2 RT (power), 3 PGD (power), 4 SS (power), 5 SGND (power), 6 FB (in), 7 CSG (in), 8 CS (in), 9 SW (out), 10 BST (power), 11 PAD (power)

## MCP4018
designator U?
footprint MCP4018 (SOT23, 6-Leads, Body 1.93x2.10mm, Pitch 0.65mm, IPC Medium Density)
pins: 1 VDD, 2 VSS, 3 SCL, 4 SDA, 5 W, 6 A

## microSD 502570-0893
designator SD
microSD 502570-0893 Molex Part
footprint 502570-0893 - Molex SD (Molex SD Card Footprint 502570-0893)
pins: 1 DAT2, 2 CD/DAT3, 3 CMD, 4 VDD, 5 CLK, 6 VSS, 7 DAT0, 8 DAT1, 9 GND, 10 GND, 11 GND, 12 GND, 13 GND

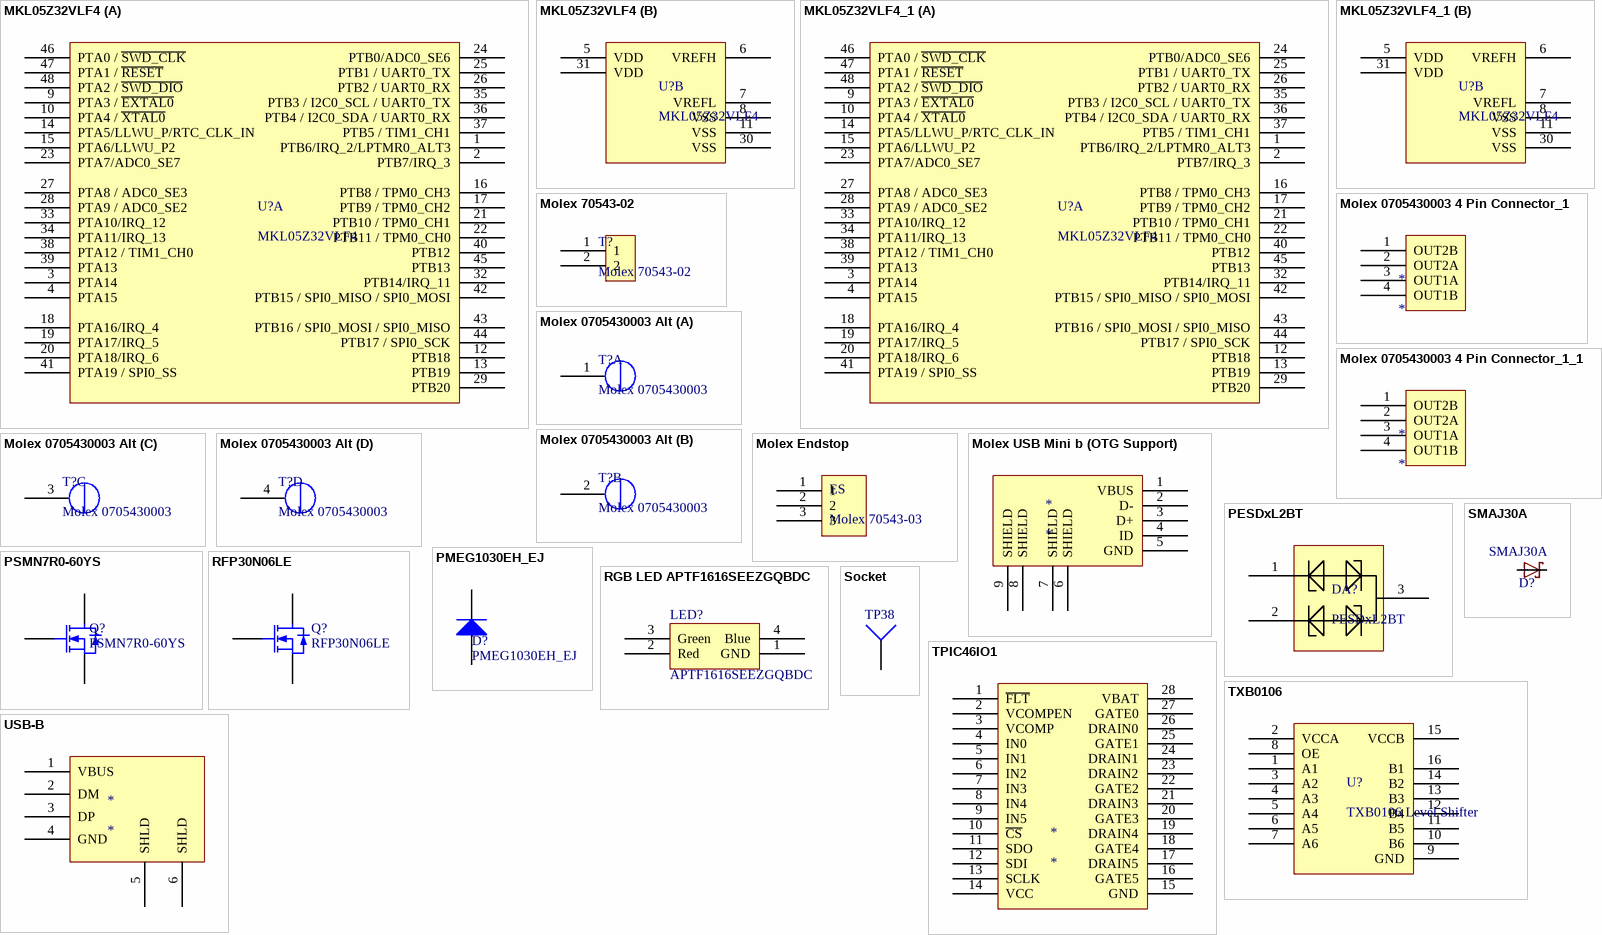
[diagram p3: symbols MKL05Z32VLF4 to USB-B]

## MKL05Z32VLF4
designator U?
ARM Cortex M0+
footprint MKL05Z32VLF4 (TSQFP, 48-Leads, Body 7.00x7.00mm, Pitch 0.50mm, IPC Medium Density)
part A pins: 1 PTB6/IRQ_2/LPTMR0_ALT3, 2 PTB7/IRQ_3, 3 PTA14, 4 PTA15, 9 PTA3 / ~{EXTAL0}, 10 PTA4 / ~{XTAL0}, 12 PTB18, 13 PTB19, 14 PTA5/LLWU_P/RTC_CLK_IN, 15 PTA6/LLWU_P2, 16 PTB8 / TPM0_CH3, 17 PTB9 / TPM0_CH2, 18 PTA16/IRQ_4, 19 PTA17/IRQ_5, 20 PTA18/IRQ_6, 21 PTB10 / TPM0_CH1, 22 PTB11 / TPM0_CH0, 23 PTA7/ADC0_SE7, 24 PTB0/ADC0_SE6, 25 PTB1 / UART0_TX, 26 PTB2 / UART0_RX, 27 PTA8 / ADC0_SE3, 28 PTA9 / ADC0_SE2, 29 PTB20, 32 PTB14/IRQ_11, 33 PTA10/IRQ_12, 34 PTA11/IRQ_13, 35 PTB3 / I2C0_SCL / UART0_TX, 36 PTB4 / I2C0_SDA / UART0_RX, 37 PTB5 / TIM1_CH1, 38 PTA12 / TIM1_CH0, 39 PTA13, 40 PTB12, 41 PTA19 / SPI0_SS, 42 PTB15 / SPI0_MISO / SPI0_MOSI, 43 PTB16 / SPI0_MOSI / SPI0_MISO, 44 PTB17 / SPI0_SCK, 45 PTB13, 46 PTA0 / ~{SWD_CLK}, 47 PTA1 / ~{RESET}, 48 PTA2 / ~{SWD_DIO}
part B pins: 5 VDD, 6 VREFH, 7 VREFL, 8 VSS, 11 VSS, 30 VSS, 31 VDD

## MKL05Z32VLF4_1
designator U?, comment MKL05Z32VLF4
ARM Cortex M0+
footprint MKL05Z32VLF4 (TSQFP, 48-Leads, Body 7.00x7.00mm, Pitch 0.50mm, IPC Medium Density)
part A pins: 1 PTB6/IRQ_2/LPTMR0_ALT3, 2 PTB7/IRQ_3, 3 PTA14, 4 PTA15, 9 PTA3 / ~{EXTAL0}, 10 PTA4 / ~{XTAL0}, 12 PTB18, 13 PTB19, 14 PTA5/LLWU_P/RTC_CLK_IN, 15 PTA6/LLWU_P2, 16 PTB8 / TPM0_CH3, 17 PTB9 / TPM0_CH2, 18 PTA16/IRQ_4, 19 PTA17/IRQ_5, 20 PTA18/IRQ_6, 21 PTB10 / TPM0_CH1, 22 PTB11 / TPM0_CH0, 23 PTA7/ADC0_SE7, 24 PTB0/ADC0_SE6, 25 PTB1 / UART0_TX, 26 PTB2 / UART0_RX, 27 PTA8 / ADC0_SE3, 28 PTA9 / ADC0_SE2, 29 PTB20, 32 PTB14/IRQ_11, 33 PTA10/IRQ_12, 34 PTA11/IRQ_13, 35 PTB3 / I2C0_SCL / UART0_TX, 36 PTB4 / I2C0_SDA / UART0_RX, 37 PTB5 / TIM1_CH1, 38 PTA12 / TIM1_CH0, 39 PTA13, 40 PTB12, 41 PTA19 / SPI0_SS, 42 PTB15 / SPI0_MISO / SPI0_MOSI, 43 PTB16 / SPI0_MOSI / SPI0_MISO, 44 PTB17 / SPI0_SCK, 45 PTB13, 46 PTA0 / ~{SWD_CLK}, 47 PTA1 / ~{RESET}, 48 PTA2 / ~{SWD_DIO}
part B pins: 5 VDD, 6 VREFH, 7 VREFL, 8 VSS, 11 VSS, 30 VSS, 31 VDD

## Molex 70543-02
designator T?
footprint Molex 70543-02
pins: 1, 2

## Molex 0705430003 4 Pin Connector_1
designator *
footprint Molex 0705430003 (4 pin connector)
pins: 1 OUT2B, 2 OUT2A, 3 OUT1A, 4 OUT1B

## Molex 0705430003 4 Pin Connector_1_1
designator *
footprint Molex 0705430003 (4 pin connector)
pins: 1 OUT2B, 2 OUT2A, 3 OUT1A, 4 OUT1B

## Molex 0705430003 Alt
designator T?, comment Molex 0705430003
Molex 4 Pin Clip Connector
footprint Molex 0705430003 (4 pin connector)
part A pins: 1 OUT2B
part B pins: 2 OUT2A
part C pins: 3 OUT1A
part D pins: 4 OUT1B

## Molex Endstop
designator ES, comment Molex 70543-03
footprint MOLEX Endstop
pins: 1, 2, 3

## Molex USB Mini b (OTG Support)
designator *
footprint MOLEX USB mini b
pins: 1 VBUS, 2 D-, 3 D+, 4 ID, 5 GND, 6 SHIELD, 7 SHIELD, 8 SHIELD, 9 SHIELD

## PESDxL2BT
designator DA?
PESDxL2BT TVS Diode Array 2x
footprint SOT95P230X110-3N (SOT23, 3-Leads, Body 2.90x2.30mm, Pitch 0.95mm, IPC Medium Density)
pins: 1, 2, 3

## PMEG1030EH_EJ
designator D?
Default Diode; Published: 8-Jun-2000; LatestRevisionDate: 17-Jul-2002; LatestRevisionNote: Re-released for DXP Platform.; PackageVersion: Sep-1996; PackageReference: SMC; Publisher: Altium Limited; PackageDescription: DO-214-AB/SMC; 2 C-Bend Leads; Body 7.9 x 5.9 mm, inc. leads (LxW); Code_JEDEC: DO-214-AB
footprint SMC (DO-214-AB/SMC; 2 C-Bend Leads; Body 7.9 x 5.9 mm, inc. leads (LxW))
simulation model DIODE (Diode)
signal-integrity model Diode
footprint SK33A - SOD123 (Molded Diode, 2-Leads, Body 4.30x2.70mm, IPC Medium Density)
footprint PMEG1030EH_EJ (Molded Diode, 2-Leads, Body 2.60x1.60mm, IPC Medium Density)
pins: 1 A, 2 K

## PSMN7R0-60YS
designator Q?
N-Channel MOSFET; Published: 8-Jun-2000; LatestRevisionDate: 17-Jul-2002; LatestRevisionNote: Re-released for DXP Platform.; PackageVersion: 1995/1996; PackageReference: E3; Publisher: Altium Limited; PackageDescription: TO, Flat Index; 3 In-Line, Axial Leads; Body Dia. 4.6mm; Lead Dia. 0.5 mm (max)
simulation model NMOS (MOSFET-N)
footprint PSMN7R0-60YS (TO, 5-Pads, Body 5.15x5.86mm (max), IPC Medium Density)
pins: 1 S hidden to GND, 2 S hidden to GND, 3 S, 4 G, 5 D

## RFP30N06LE
designator Q?
N-Channel MOSFET; Published: 8-Jun-2000; LatestRevisionDate: 17-Jul-2002; LatestRevisionNote: Re-released for DXP Platform.; PackageVersion: 1995/1996; PackageReference: E3; Publisher: Altium Limited; PackageDescription: TO, Flat Index; 3 In-Line, Axial Leads; Body Dia. 4.6mm; Lead Dia. 0.5 mm (max)
simulation model NMOS (MOSFET-N)
footprint RFP30N06LE (D2-PAK, 3-Pads, Body 7.93x8.69mm (max), IPC Medium Density)
pins: 1 G, 2 D, 3 S

## RGB LED APTF1616SEEZGQBDC
designator LED?, comment APTF1616SEEZGQBDC
RGB LED
footprint RGB LED APTF1616SEEZGQBDC (RGB LED)
pins: 1 GND, 2 Red, 3 Green, 4 Blue

## SMAJ30A
designator D?
DIODE TVS 30V SMA; LastRevisionNote: ImportComponents; Published: 23-Apr-2014; Publisher: UltiMachine; LastRevisionDate: 23-Apr-2014; ManufacturerPartNumber: SMAJ30A
footprint SMA-SM
pins: A, C

## Socket
designator TP38, comment TP4  (value not drawn)
Socket; LatestRevisionDate: 17-Jul-2002; LatestRevisionNote: Re-released for DXP Platform.; Publisher: Altium Limited
signal-integrity model Connector
footprint TP-2
pins: 1

## TPIC46IO1
designator *
footprint SOP65P780X200_HS-29N (SOP, 28-Leads, Body 10.20x5.30mm, Pitch 0.65mm, Thermal Pad 5.08.2x3.00.2mm, IPC Medium Density)
pins: 1 ~{FLT}, 2 VCOMPEN, 3 VCOMP, 4 IN0, 5 IN1, 6 IN2, 7 IN3, 8 IN4, 9 IN5, 10 ~{CS}, 11 SDO, 12 SDI, 13 SCLK, 14 VCC, 15 GND, 16 GATE5, 17 DRAIN5, 18 GATE4, 19 DRAIN4, 20 GATE3, 21 DRAIN3, 22 GATE2, 23 DRAIN2, 24 DRAIN1, 25 GATE1, 26 DRAIN0, 27 GATE0, 28 VBAT

## TXB0106
designator U?, comment TXB0106 Level Shifter
TXB0106 - Bidriectional Opendrain/pushpull level shift
footprint TSOP65P640X120-16N (TSOP, 16-Leads, Body 5.00x4.40mm, Pitch 0.65mm, IPC Medium Density)
pins: 1 A1, 2 VCCA, 3 A2, 4 A3, 5 A4, 6 A5, 7 A6, 8 OE, 9 GND, 10 B6, 11 B5, 12 B4, 13 B3, 14 B2, 15 VCCB, 16 B1

## USB-B
designator *
footprint PN61729
pins: 1 VBUS, 2 DM, 3 DP, 4 GND, 5 SHLD, 6 SHLD